# Altium footprint library Fat_Man.PcbLib: 1 footprints
Each footprint in its own frame and in the unit in brackets; x right, y up, seen from the top. Pads: shape width x height; smd on the part's side, far side on the other; paste and mask are expansions set on the pad; w line width, h text height; cw(c..) or ccw(c..) is an arc to the next point about the centre after c.
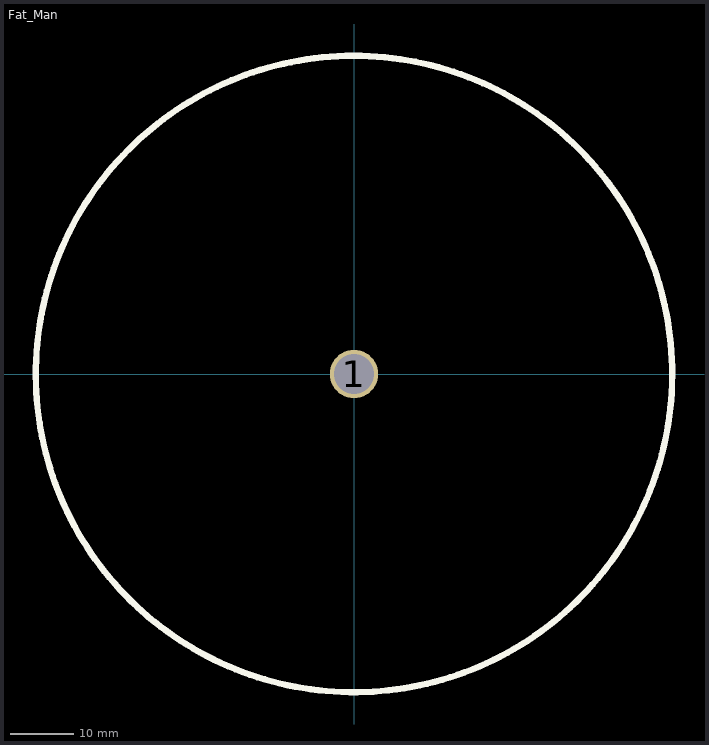
[diagram p0: the footprint, top view; thin cyan lines are the x and y axes]

## Fat_Man [mil]
pads (1):
  round 300 hole 250 unplated: 1(0,-0.01)
Top Overlay:
  lines w39.37: 1967.41,-65.58 cw(c0,0) 1967.74,-54.66
3D body: height 2165.35, standoff 0, extent -1771.65,-1771.17 1771.66,1771.17
3D body: height 459.45, standoff 249.21, extent 3720,45 3720,45
3D body: height 459.45, standoff 249.21, extent 3655,155 3655,155
3D body: height 459.45, standoff 249.21, extent 3655,155 3655,155
3D body "92949A552_18-8 SS BUTTON HEAD HEX DRIVE SCREW.STEP": height 2316, standoff -316, extent -218.5,-218.5 218.51,218.5